# Altium integrated library WL-SWTP (rev22c).IntLib: 30 symbols
Pins are listed as number, name and electrical type; pins without a type are passive.

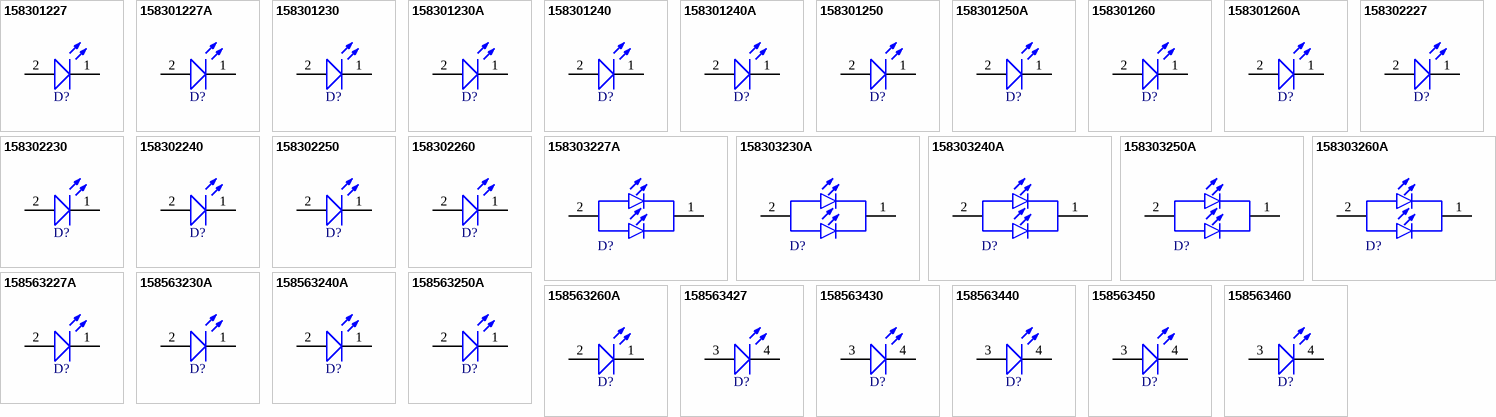
[diagram p0: symbols 158301227 to 158563460]

## 158301227
designator D?, comment Sunrise, 3V, 120°  (value not drawn)
WL-SWTP SMT White Top view PLCC, size 3014, Sunrise, 3V, 120°; Manufacturer Part Number: 158301227; Manufacturer: Wurth Elektronik; Case/Size Code: 3014; Chip Technology: InGaN; Color Rendering Index: 85; Correlated Color Temperature: 2700K; Luminous Flux: 8lm; ComponentLink1Description: Website Link; ComponentLink1URL: https://www.we-online.com/redexpert/article/158301227?ad; ComponentLink2Description: Datasheet Link; ComponentLink2URL: https://www.we-online.com/redexpert/spec/158301227?ad; Category: General Lighting; Match Code: WL-SWTP; Mount: Surface Mount; Operating Temperature Max: 85°C; Operating Temperature Min: -40°C; Packaging: Tape and Reel; Length: 3mm; Width: 1.4mm; Height: 0.8mm; Emitting Color: Sunrise; Forward Voltage: 3V; Viewing Angle: 120°
footprint WL-SWTP_3014_L3W1.4H0.8
pins: 1 K, 2 A

## 158301227A
designator D?, comment Sunrise, 2.8V, 120°  (value not drawn)
WL-SWTP SMT White Top view PLCC, size 3014, Sunrise, 2.8V, 120°; Manufacturer Part Number: 158301227A; Manufacturer: Wurth Elektronik; Case/Size Code: 3014; Chip Technology: AlInGaN; Color Rendering Index: 85; Correlated Color Temperature: 2700K; Luminous Flux: 26lm; ComponentLink1Description: Website Link; ComponentLink1URL: https://www.we-online.com/redexpert/article/158301227A?ad; ComponentLink2Description: Datasheet Link; ComponentLink2URL: https://www.we-online.com/redexpert/spec/158301227A?ad; Category: General Lighting; Match Code: WL-SWTP; Mount: Surface Mount; Operating Temperature Max: 85°C; Operating Temperature Min: -40°C; Packaging: Tape and Reel; Length: 3mm; Width: 1.4mm; Height: 0.65mm; Emitting Color: Sunrise; Forward Voltage: 2.8V; Viewing Angle: 120°
footprint WL-SWTP_3014_L3W1.4H0.65
pins: 1 K, 2 A

## 158301230
designator D?, comment Warm White, 3V, 120°  (value not drawn)
WL-SWTP SMT White Top view PLCC, size 3014, Warm White, 3V, 120°; Manufacturer Part Number: 158301230; Manufacturer: Wurth Elektronik; Case/Size Code: 3014; Chip Technology: InGaN; Color Rendering Index: 85; Correlated Color Temperature: 3000K; Luminous Flux: 8lm; ComponentLink1Description: Website Link; ComponentLink1URL: https://www.we-online.com/redexpert/article/158301230?ad; ComponentLink2Description: Datasheet Link; ComponentLink2URL: https://www.we-online.com/redexpert/spec/158301230?ad; Category: General Lighting; Match Code: WL-SWTP; Mount: Surface Mount; Operating Temperature Max: 85°C; Operating Temperature Min: -40°C; Packaging: Tape and Reel; Length: 3mm; Width: 1.4mm; Height: 0.8mm; Emitting Color: Warm White; Forward Voltage: 3V; Viewing Angle: 120°
footprint WL-SWTP_3014_L3W1.4H0.8
pins: 1 K, 2 A

## 158301230A
designator D?, comment Warm White, 2.8V, 120°  (value not drawn)
WL-SWTP SMT White Top view PLCC, size 3014, Warm White, 2.8V, 120°; Manufacturer Part Number: 158301230A; Manufacturer: Wurth Elektronik; Case/Size Code: 3014; Chip Technology: AlInGaN; Color Rendering Index: 85; Correlated Color Temperature: 3000K; Luminous Flux: 26lm; ComponentLink1Description: Website Link; ComponentLink1URL: https://www.we-online.com/redexpert/article/158301230A?ad; ComponentLink2Description: Datasheet Link; ComponentLink2URL: https://www.we-online.com/redexpert/spec/158301230A?ad; Category: General Lighting; Match Code: WL-SWTP; Mount: Surface Mount; Operating Temperature Max: 85°C; Operating Temperature Min: -40°C; Packaging: Tape and Reel; Length: 3mm; Width: 1.4mm; Height: 0.65mm; Emitting Color: Warm White; Forward Voltage: 2.8V; Viewing Angle: 120°
footprint WL-SWTP_3014_L3W1.4H0.65
pins: 1 K, 2 A

## 158301240
designator D?, comment Moonlight, 3V, 120°  (value not drawn)
WL-SWTP SMT White Top view PLCC, size 3014, Moonlight, 3V, 120°; Manufacturer Part Number: 158301240; Manufacturer: Wurth Elektronik; Case/Size Code: 3014; Chip Technology: InGaN; Color Rendering Index: 85; Correlated Color Temperature: 4000K; Luminous Flux: 8.5lm; ComponentLink1Description: Website Link; ComponentLink1URL: https://www.we-online.com/redexpert/article/158301240?ad; ComponentLink2Description: Datasheet Link; ComponentLink2URL: https://www.we-online.com/redexpert/spec/158301240?ad; Category: General Lighting; Match Code: WL-SWTP; Mount: Surface Mount; Operating Temperature Max: 85°C; Operating Temperature Min: -40°C; Packaging: Tape and Reel; Length: 3mm; Width: 1.4mm; Height: 0.8mm; Emitting Color: Moonlight; Forward Voltage: 3V; Viewing Angle: 120°
footprint WL-SWTP_3014_L3W1.4H0.8
pins: 1 K, 2 A

## 158301240A
designator D?, comment Moonlight, 2.8V, 120°  (value not drawn)
WL-SWTP SMT White Top view PLCC, size 3014, Moonlight, 2.8V, 120°; Manufacturer Part Number: 158301240A; Manufacturer: Wurth Elektronik; Case/Size Code: 3014; Chip Technology: AlInGaN; Color Rendering Index: 85; Correlated Color Temperature: 4000K; Luminous Flux: 26lm; ComponentLink1Description: Website Link; ComponentLink1URL: https://www.we-online.com/redexpert/article/158301240A?ad; ComponentLink2Description: Datasheet Link; ComponentLink2URL: https://www.we-online.com/redexpert/spec/158301240A?ad; Category: General Lighting; Match Code: WL-SWTP; Mount: Surface Mount; Operating Temperature Max: 85°C; Operating Temperature Min: -40°C; Packaging: Tape and Reel; Length: 3mm; Width: 1.4mm; Height: 0.65mm; Emitting Color: Moonlight; Forward Voltage: 2.8V; Viewing Angle: 120°
footprint WL-SWTP_3014_L3W1.4H0.65
pins: 1 K, 2 A

## 158301250
designator D?, comment Daylight, 3V, 120°  (value not drawn)
WL-SWTP SMT White Top view PLCC, size 3014, Daylight, 3V, 120°; Manufacturer Part Number: 158301250; Manufacturer: Wurth Elektronik; Case/Size Code: 3014; Chip Technology: InGaN; Color Rendering Index: 85; Correlated Color Temperature: 5000K; Luminous Flux: 9lm; ComponentLink1Description: Website Link; ComponentLink1URL: https://www.we-online.com/redexpert/article/158301250?ad; ComponentLink2Description: Datasheet Link; ComponentLink2URL: https://www.we-online.com/redexpert/spec/158301250?ad; Category: General Lighting; Match Code: WL-SWTP; Mount: Surface Mount; Operating Temperature Max: 85°C; Operating Temperature Min: -40°C; Packaging: Tape and Reel; Length: 3mm; Width: 1.4mm; Height: 0.8mm; Emitting Color: Daylight; Forward Voltage: 3V; Viewing Angle: 120°
footprint WL-SWTP_3014_L3W1.4H0.8
pins: 1 K, 2 A

## 158301250A
designator D?, comment Daylight, 2.8V, 120°  (value not drawn)
WL-SWTP SMT White Top view PLCC, size 3014, Daylight, 2.8V, 120°; Manufacturer Part Number: 158301250A; Manufacturer: Wurth Elektronik; Case/Size Code: 3014; Chip Technology: AlInGaN; Color Rendering Index: 85; Correlated Color Temperature: 5000K; Luminous Flux: 26lm; ComponentLink1Description: Website Link; ComponentLink1URL: https://www.we-online.com/redexpert/article/158301250A?ad; ComponentLink2Description: Datasheet Link; ComponentLink2URL: https://www.we-online.com/redexpert/spec/158301250A?ad; Category: General Lighting; Match Code: WL-SWTP; Mount: Surface Mount; Operating Temperature Max: 85°C; Operating Temperature Min: -40°C; Packaging: Tape and Reel; Length: 3mm; Width: 1.4mm; Height: 0.65mm; Emitting Color: Daylight; Forward Voltage: 2.8V; Viewing Angle: 120°
footprint WL-SWTP_3014_L3W1.4H0.65
pins: 1 K, 2 A

## 158301260
designator D?, comment Cool White, 3V, 120°  (value not drawn)
WL-SWTP SMT White Top view PLCC, size 3014, Cool White, 3V, 120°; Manufacturer Part Number: 158301260; Manufacturer: Wurth Elektronik; Case/Size Code: 3014; Chip Technology: InGaN; Color Rendering Index: 90; Correlated Color Temperature: 6000K; Luminous Flux: 9lm; ComponentLink1Description: Website Link; ComponentLink1URL: https://www.we-online.com/redexpert/article/158301260?ad; ComponentLink2Description: Datasheet Link; ComponentLink2URL: https://www.we-online.com/redexpert/spec/158301260?ad; Category: General Lighting; Match Code: WL-SWTP; Mount: Surface Mount; Operating Temperature Max: 85°C; Operating Temperature Min: -40°C; Packaging: Tape and Reel; Length: 3mm; Width: 1.4mm; Height: 0.8mm; Emitting Color: Cool White; Forward Voltage: 3V; Viewing Angle: 120°
footprint WL-SWTP_3014_L3W1.4H0.8
pins: 1 K, 2 A

## 158301260A
designator D?, comment Cool White, 2.8V, 120°  (value not drawn)
WL-SWTP SMT White Top view PLCC, size 3014, Cool White, 2.8V, 120°; Manufacturer Part Number: 158301260A; Manufacturer: Wurth Elektronik; Case/Size Code: 3014; Chip Technology: AlInGaN; Color Rendering Index: 85; Correlated Color Temperature: 6000K; Luminous Flux: 26lm; ComponentLink1Description: Website Link; ComponentLink1URL: https://www.we-online.com/redexpert/article/158301260A?ad; ComponentLink2Description: Datasheet Link; ComponentLink2URL: https://www.we-online.com/redexpert/spec/158301260A?ad; Category: General Lighting; Match Code: WL-SWTP; Mount: Surface Mount; Operating Temperature Max: 85°C; Operating Temperature Min: -40°C; Packaging: Tape and Reel; Length: 3mm; Width: 1.4mm; Height: 0.65mm; Emitting Color: Cool White; Forward Voltage: 2.8V; Viewing Angle: 120°
footprint WL-SWTP_3014_L3W1.4H0.65
pins: 1 K, 2 A

## 158302227
designator D?, comment Sunrise, 3.2V, 120°  (value not drawn)
WL-SWTP SMT White Top view PLCC, size 3022, Sunrise, 3.2V, 120°; Manufacturer Part Number: 158302227; Manufacturer: Wurth Elektronik; Case/Size Code: 3022; Chip Technology: InGaN; Color Rendering Index: 85; Correlated Color Temperature: 2700K; Luminous Flux: 20lm; ComponentLink1Description: Website Link; ComponentLink1URL: https://www.we-online.com/redexpert/article/158302227?ad; ComponentLink2Description: Datasheet Link; ComponentLink2URL: https://www.we-online.com/redexpert/spec/158302227?ad; Category: General Lighting; Match Code: WL-SWTP; Mount: Surface Mount; Operating Temperature Max: 85°C; Operating Temperature Min: -40°C; Packaging: Tape and Reel; Length: 3mm; Width: 2mm; Height: 0.8mm; Emitting Color: Sunrise; Forward Voltage: 3.2V; Viewing Angle: 120°
footprint WL-SWTP_3022_L3W2H0.8
pins: 1 K, 2 A

## 158302230
designator D?, comment Warm White, 3.2V, 120°  (value not drawn)
WL-SWTP SMT White Top view PLCC, size 3022, Warm White, 3.2V, 120°; Manufacturer Part Number: 158302230; Manufacturer: Wurth Elektronik; Case/Size Code: 3022; Chip Technology: InGaN; Color Rendering Index: 85; Correlated Color Temperature: 3000K; Luminous Flux: 20lm; ComponentLink1Description: Website Link; ComponentLink1URL: https://www.we-online.com/redexpert/article/158302230?ad; ComponentLink2Description: Datasheet Link; ComponentLink2URL: https://www.we-online.com/redexpert/spec/158302230?ad; Category: General Lighting; Match Code: WL-SWTP; Mount: Surface Mount; Operating Temperature Max: 85°C; Operating Temperature Min: -40°C; Packaging: Tape and Reel; Length: 3mm; Width: 2mm; Height: 0.8mm; Emitting Color: Warm White; Forward Voltage: 3.2V; Viewing Angle: 120°
footprint WL-SWTP_3022_L3W2H0.8
pins: 1 K, 2 A

## 158302240
designator D?, comment Moonlight, 3.2V, 120°  (value not drawn)
WL-SWTP SMT White Top view PLCC, size 3022, Moonlight, 3.2V, 120°; Manufacturer Part Number: 158302240; Manufacturer: Wurth Elektronik; Case/Size Code: 3022; Chip Technology: InGaN; Color Rendering Index: 85; Correlated Color Temperature: 4000K; Luminous Flux: 22lm; ComponentLink1Description: Website Link; ComponentLink1URL: https://www.we-online.com/redexpert/article/158302240?ad; ComponentLink2Description: Datasheet Link; ComponentLink2URL: https://www.we-online.com/redexpert/spec/158302240?ad; Category: General Lighting; Match Code: WL-SWTP; Mount: Surface Mount; Operating Temperature Max: 85°C; Operating Temperature Min: -40°C; Packaging: Tape and Reel; Length: 3mm; Width: 2mm; Height: 0.8mm; Emitting Color: Moonlight; Forward Voltage: 3.2V; Viewing Angle: 120°
footprint WL-SWTP_3022_L3W2H0.8
pins: 1 K, 2 A

## 158302250
designator D?, comment Daylight, 3.2V, 120°  (value not drawn)
WL-SWTP SMT White Top view PLCC, size 3022, Daylight, 3.2V, 120°; Manufacturer Part Number: 158302250; Manufacturer: Wurth Elektronik; Case/Size Code: 3022; Chip Technology: InGaN; Color Rendering Index: 85; Correlated Color Temperature: 5000K; Luminous Flux: 22lm; ComponentLink1Description: Website Link; ComponentLink1URL: https://www.we-online.com/redexpert/article/158302250?ad; ComponentLink2Description: Datasheet Link; ComponentLink2URL: https://www.we-online.com/redexpert/spec/158302250?ad; Category: General Lighting; Match Code: WL-SWTP; Mount: Surface Mount; Operating Temperature Max: 85°C; Operating Temperature Min: -40°C; Packaging: Tape and Reel; Length: 3mm; Width: 2mm; Height: 0.8mm; Emitting Color: Daylight; Forward Voltage: 3.2V; Viewing Angle: 120°
footprint WL-SWTP_3022_L3W2H0.8
pins: 1 K, 2 A

## 158302260
designator D?, comment Cool White, 3.2V, 120°  (value not drawn)
WL-SWTP SMT White Top view PLCC, size 3022, Cool White, 3.2V, 120°; Manufacturer Part Number: 158302260; Manufacturer: Wurth Elektronik; Case/Size Code: 3022; Chip Technology: InGaN; Color Rendering Index: 90; Correlated Color Temperature: 6000K; Luminous Flux: 22lm; ComponentLink1Description: Website Link; ComponentLink1URL: https://www.we-online.com/redexpert/article/158302260?ad; ComponentLink2Description: Datasheet Link; ComponentLink2URL: https://www.we-online.com/redexpert/spec/158302260?ad; Category: General Lighting; Match Code: WL-SWTP; Mount: Surface Mount; Operating Temperature Max: 85°C; Operating Temperature Min: -40°C; Packaging: Tape and Reel; Length: 3mm; Width: 2mm; Height: 0.8mm; Emitting Color: Cool White; Forward Voltage: 3.2V; Viewing Angle: 120°
footprint WL-SWTP_3022_L3W2H0.8
pins: 1 K, 2 A

## 158303227A
designator D?, comment Sunrise, 2.8V, 120°  (value not drawn)
WL-SWTP SMT White Top view PLCC, size 3030, Sunrise, 2.8V, 120°; Manufacturer Part Number: 158303227A; Manufacturer: Wurth Elektronik; Case/Size Code: 3030; Chip Technology: AlInGaN; Color Rendering Index: 85; Correlated Color Temperature: 2700K; Luminous Flux: 34lm; ComponentLink1Description: Website Link; ComponentLink1URL: https://www.we-online.com/redexpert/article/158303227A?ad; ComponentLink2Description: Datasheet Link; ComponentLink2URL: https://www.we-online.com/redexpert/spec/158303227A?ad; Category: General Lighting; Match Code: WL-SWTP; Mount: Surface Mount; Operating Temperature Max: 85°C; Operating Temperature Min: -40°C; Packaging: Tape and Reel; Length: 3mm; Width: 3mm; Height: 0.67mm; Emitting Color: Sunrise; Forward Voltage: 2.8V; Viewing Angle: 120°
footprint WL-SWTP_3030_L3W3H0.67
pins: 1 K, 2 A

## 158303230A
designator D?, comment Warm White, 2.8V, 120°  (value not drawn)
WL-SWTP SMT White Top view PLCC, size 3030, Warm White, 2.8V, 120°; Manufacturer Part Number: 158303230A; Manufacturer: Wurth Elektronik; Case/Size Code: 3030; Chip Technology: AlInGaN; Color Rendering Index: 85; Correlated Color Temperature: 3000K; Luminous Flux: 34lm; ComponentLink1Description: Website Link; ComponentLink1URL: https://www.we-online.com/redexpert/article/158303230A?ad; ComponentLink2Description: Datasheet Link; ComponentLink2URL: https://www.we-online.com/redexpert/spec/158303230A?ad; Category: General Lighting; Match Code: WL-SWTP; Mount: Surface Mount; Operating Temperature Max: 85°C; Operating Temperature Min: -40°C; Packaging: Tape and Reel; Length: 3mm; Width: 3mm; Height: 0.67mm; Emitting Color: Warm White; Forward Voltage: 2.8V; Viewing Angle: 120°
footprint WL-SWTP_3030_L3W3H0.67
pins: 1 K, 2 A

## 158303240A
designator D?, comment Moonlight, 2.8V, 120°  (value not drawn)
WL-SWTP SMT White Top view PLCC, size 3030, Moonlight, 2.8V, 120°; Manufacturer Part Number: 158303240A; Manufacturer: Wurth Elektronik; Case/Size Code: 3030; Chip Technology: AlInGaN; Color Rendering Index: 85; Correlated Color Temperature: 4000K; Luminous Flux: 36lm; ComponentLink1Description: Website Link; ComponentLink1URL: https://www.we-online.com/redexpert/article/158303240A?ad; ComponentLink2Description: Datasheet Link; ComponentLink2URL: https://www.we-online.com/redexpert/spec/158303240A?ad; Category: General Lighting; Match Code: WL-SWTP; Mount: Surface Mount; Operating Temperature Max: 85°C; Operating Temperature Min: -40°C; Packaging: Tape and Reel; Length: 3mm; Width: 3mm; Height: 0.67mm; Emitting Color: Moonlight; Forward Voltage: 2.8V; Viewing Angle: 120°
footprint WL-SWTP_3030_L3W3H0.67
pins: 1 K, 2 A

## 158303250A
designator D?, comment Daylight, 2.8V, 120°  (value not drawn)
WL-SWTP SMT White Top view PLCC, size 3030, Daylight, 2.8V, 120°; Manufacturer Part Number: 158303250A; Manufacturer: Wurth Elektronik; Case/Size Code: 3030; Chip Technology: AlInGaN; Color Rendering Index: 85; Correlated Color Temperature: 5000K; Luminous Flux: 36lm; ComponentLink1Description: Website Link; ComponentLink1URL: https://www.we-online.com/redexpert/article/158303250A?ad; ComponentLink2Description: Datasheet Link; ComponentLink2URL: https://www.we-online.com/redexpert/spec/158303250A?ad; Category: General Lighting; Match Code: WL-SWTP; Mount: Surface Mount; Operating Temperature Max: 85°C; Operating Temperature Min: -40°C; Packaging: Tape and Reel; Length: 3mm; Width: 3mm; Height: 0.67mm; Emitting Color: Daylight; Forward Voltage: 2.8V; Viewing Angle: 120°
footprint WL-SWTP_3030_L3W3H0.67
pins: 1 K, 2 A

## 158303260A
designator D?, comment Cool White, 2.8V, 120°  (value not drawn)
WL-SWTP SMT White Top view PLCC, size 3030, Cool White, 2.8V, 120°; Manufacturer Part Number: 158303260A; Manufacturer: Wurth Elektronik; Case/Size Code: 3030; Chip Technology: AlInGaN; Color Rendering Index: 85; Correlated Color Temperature: 6000K; Luminous Flux: 36lm; ComponentLink1Description: Website Link; ComponentLink1URL: https://www.we-online.com/redexpert/article/158303260A?ad; ComponentLink2Description: Datasheet Link; ComponentLink2URL: https://www.we-online.com/redexpert/spec/158303260A?ad; Category: General Lighting; Match Code: WL-SWTP; Mount: Surface Mount; Operating Temperature Max: 85°C; Operating Temperature Min: -40°C; Packaging: Tape and Reel; Length: 3mm; Width: 3mm; Height: 0.67mm; Emitting Color: Cool White; Forward Voltage: 2.8V; Viewing Angle: 120°
footprint WL-SWTP_3030_L3W3H0.67
pins: 1 K, 2 A

## 158563227A
designator D?, comment Sunrise, 2.8V, 120°  (value not drawn)
WL-SWTP SMT White Top view PLCC, size 5630, Sunrise, 2.8V, 120°; Manufacturer Part Number: 158563227A; Manufacturer: Wurth Elektronik; Case/Size Code: 5630; Chip Technology: InGaN; Color Rendering Index: 85; Correlated Color Temperature: 2700K; Luminous Flux: 32lm; ComponentLink1Description: Website Link; ComponentLink1URL: https://www.we-online.com/redexpert/article/158563227A?ad; ComponentLink2Description: Datasheet Link; ComponentLink2URL: https://www.we-online.com/redexpert/spec/158563227A?ad; Category: General Lighting; Match Code: WL-SWTP; Mount: Surface Mount; Operating Temperature Max: 85°C; Operating Temperature Min: -40°C; Packaging: Tape and Reel; Length: 5.6mm; Width: 3mm; Height: 0.6mm; Emitting Color: Sunrise; Forward Voltage: 2.8V; Viewing Angle: 120°
footprint WL-SWTP_5630_L5.6W3H0.6
pins: 1 K, 2 A

## 158563230A
designator D?, comment Warm White, 2.8V, 120°  (value not drawn)
WL-SWTP SMT White Top view PLCC, size 5630, Warm White, 2.8V, 120°; Manufacturer Part Number: 158563230A; Manufacturer: Wurth Elektronik; Case/Size Code: 5630; Chip Technology: InGaN; Color Rendering Index: 85; Correlated Color Temperature: 3000K; Luminous Flux: 32lm; ComponentLink1Description: Website Link; ComponentLink1URL: https://www.we-online.com/redexpert/article/158563230A?ad; ComponentLink2Description: Datasheet Link; ComponentLink2URL: https://www.we-online.com/redexpert/spec/158563230A?ad; Category: General Lighting; Match Code: WL-SWTP; Mount: Surface Mount; Operating Temperature Max: 85°C; Operating Temperature Min: -40°C; Packaging: Tape and Reel; Length: 5.6mm; Width: 3mm; Height: 0.6mm; Emitting Color: Warm White; Forward Voltage: 2.8V; Viewing Angle: 120°
footprint WL-SWTP_5630_L5.6W3H0.6
pins: 1 K, 2 A

## 158563240A
designator D?, comment Moonlight, 2.8V, 120°  (value not drawn)
WL-SWTP SMT White Top view PLCC, size 5630, Moonlight, 2.8V, 120°; Manufacturer Part Number: 158563240A; Manufacturer: Wurth Elektronik; Case/Size Code: 5630; Chip Technology: InGaN; Color Rendering Index: 85; Correlated Color Temperature: 4000K; Luminous Flux: 32lm; ComponentLink1Description: Website Link; ComponentLink1URL: https://www.we-online.com/redexpert/article/158563240A?ad; ComponentLink2Description: Datasheet Link; ComponentLink2URL: https://www.we-online.com/redexpert/spec/158563240A?ad; Category: General Lighting; Match Code: WL-SWTP; Mount: Surface Mount; Operating Temperature Max: 85°C; Operating Temperature Min: -40°C; Packaging: Tape and Reel; Length: 5.6mm; Width: 3mm; Height: 0.6mm; Emitting Color: Moonlight; Forward Voltage: 2.8V; Viewing Angle: 120°
footprint WL-SWTP_5630_L5.6W3H0.6
pins: 1 K, 2 A

## 158563250A
designator D?, comment Daylight, 2.8V, 120°  (value not drawn)
WL-SWTP SMT White Top view PLCC, size 5630, Daylight, 2.8V, 120°; Manufacturer Part Number: 158563250A; Manufacturer: Wurth Elektronik; Case/Size Code: 5630; Chip Technology: InGaN; Color Rendering Index: 85; Correlated Color Temperature: 5000K; Luminous Flux: 35lm; ComponentLink1Description: Website Link; ComponentLink1URL: https://www.we-online.com/redexpert/article/158563250A?ad; ComponentLink2Description: Datasheet Link; ComponentLink2URL: https://www.we-online.com/redexpert/spec/158563250A?ad; Category: General Lighting; Match Code: WL-SWTP; Mount: Surface Mount; Operating Temperature Max: 85°C; Operating Temperature Min: -40°C; Packaging: Tape and Reel; Length: 5.6mm; Width: 3mm; Height: 0.6mm; Emitting Color: Daylight; Forward Voltage: 2.8V; Viewing Angle: 120°
footprint WL-SWTP_5630_L5.6W3H0.6
pins: 1 K, 2 A

## 158563260A
designator D?, comment Cool White, 2.8V, 120°  (value not drawn)
WL-SWTP SMT White Top view PLCC, size 5630, Cool White, 2.8V, 120°; Manufacturer Part Number: 158563260A; Manufacturer: Wurth Elektronik; Case/Size Code: 5630; Chip Technology: InGaN; Color Rendering Index: 85; Correlated Color Temperature: 6000K; Luminous Flux: 35lm; ComponentLink1Description: Website Link; ComponentLink1URL: https://www.we-online.com/redexpert/article/158563260A?ad; ComponentLink2Description: Datasheet Link; ComponentLink2URL: https://www.we-online.com/redexpert/spec/158563260A?ad; Category: General Lighting; Match Code: WL-SWTP; Mount: Surface Mount; Operating Temperature Max: 85°C; Operating Temperature Min: -40°C; Packaging: Tape and Reel; Length: 5.6mm; Width: 3mm; Height: 0.6mm; Emitting Color: Cool White; Forward Voltage: 2.8V; Viewing Angle: 120°
footprint WL-SWTP_5630_L5.6W3H0.6
pins: 1 K, 2 A

## 158563427
designator D?, comment Sunrise, 3V, 120°  (value not drawn)
WL-SWTP SMT White Top view PLCC, size 5630, Sunrise, 3V, 120°; Manufacturer Part Number: 158563427; Manufacturer: Wurth Elektronik; Case/Size Code: 5630; Chip Technology: InGaN; Color Rendering Index: 85; Correlated Color Temperature: 2700K; Luminous Flux: 34lm; ComponentLink1Description: Website Link; ComponentLink1URL: https://www.we-online.com/redexpert/article/158563427?ad; ComponentLink2Description: Datasheet Link; ComponentLink2URL: https://www.we-online.com/redexpert/spec/158563427?ad; Category: General Lighting; Match Code: WL-SWTP; Mount: Surface Mount; Operating Temperature Max: 85°C; Operating Temperature Min: -40°C; Packaging: Tape and Reel; Length: 5.6mm; Width: 3mm; Height: 0.9mm; Emitting Color: Sunrise; Forward Voltage: 3V; Viewing Angle: 120°
footprint WL-SWTP_5630_L5.6W3H0.9
pins: 3 A, 4 K

## 158563430
designator D?, comment Warm White, 3V, 120°  (value not drawn)
WL-SWTP SMT White Top view PLCC, size 5630, Warm White, 3V, 120°; Manufacturer Part Number: 158563430; Manufacturer: Wurth Elektronik; Case/Size Code: 5630; Chip Technology: InGaN; Color Rendering Index: 85; Correlated Color Temperature: 3000K; Luminous Flux: 34lm; ComponentLink1Description: Website Link; ComponentLink1URL: https://www.we-online.com/redexpert/article/158563430?ad; ComponentLink2Description: Datasheet Link; ComponentLink2URL: https://www.we-online.com/redexpert/spec/158563430?ad; Category: General Lighting; Match Code: WL-SWTP; Mount: Surface Mount; Operating Temperature Max: 85°C; Operating Temperature Min: -40°C; Packaging: Tape and Reel; Length: 5.6mm; Width: 3mm; Height: 0.9mm; Emitting Color: Warm White; Forward Voltage: 3V; Viewing Angle: 120°
footprint WL-SWTP_5630_L5.6W3H0.9
pins: 3 A, 4 K

## 158563440
designator D?, comment Moonlight, 3V, 120°  (value not drawn)
WL-SWTP SMT White Top view PLCC, size 5630, Moonlight, 3V, 120°; Manufacturer Part Number: 158563440; Manufacturer: Wurth Elektronik; Case/Size Code: 5630; Chip Technology: InGaN; Color Rendering Index: 85; Correlated Color Temperature: 4000K; Luminous Flux: 36lm; ComponentLink1Description: Website Link; ComponentLink1URL: https://www.we-online.com/redexpert/article/158563440?ad; ComponentLink2Description: Datasheet Link; ComponentLink2URL: https://www.we-online.com/redexpert/spec/158563440?ad; Category: General Lighting; Match Code: WL-SWTP; Mount: Surface Mount; Operating Temperature Max: 85°C; Operating Temperature Min: -40°C; Packaging: Tape and Reel; Length: 5.6mm; Width: 3mm; Height: 0.9mm; Emitting Color: Moonlight; Forward Voltage: 3V; Viewing Angle: 120°
footprint WL-SWTP_5630_L5.6W3H0.9
pins: 3 A, 4 K

## 158563450
designator D?, comment Daylight, 3V, 120°  (value not drawn)
WL-SWTP SMT White Top view PLCC, size 5630, Daylight, 3V, 120°; Manufacturer Part Number: 158563450; Manufacturer: Wurth Elektronik; Case/Size Code: 5630; Chip Technology: InGaN; Color Rendering Index: 85; Correlated Color Temperature: 5000K; Luminous Flux: 39lm; ComponentLink1Description: Website Link; ComponentLink1URL: https://www.we-online.com/redexpert/article/158563450?ad; ComponentLink2Description: Datasheet Link; ComponentLink2URL: https://www.we-online.com/redexpert/spec/158563450?ad; Category: General Lighting; Match Code: WL-SWTP; Mount: Surface Mount; Operating Temperature Max: 85°C; Operating Temperature Min: -40°C; Packaging: Tape and Reel; Length: 5.6mm; Width: 3mm; Height: 0.9mm; Emitting Color: Daylight; Forward Voltage: 3V; Viewing Angle: 120°
footprint WL-SWTP_5630_L5.6W3H0.9
pins: 3 A, 4 K

## 158563460
designator D?, comment Cool White, 3V, 120°  (value not drawn)
WL-SWTP SMT White Top view PLCC, size 5630, Cool White, 3V, 120°; Manufacturer Part Number: 158563460; Manufacturer: Wurth Elektronik; Case/Size Code: 5630; Chip Technology: InGaN; Color Rendering Index: 90; Correlated Color Temperature: 6000K; Luminous Flux: 39lm; ComponentLink1Description: Website Link; ComponentLink1URL: https://www.we-online.com/redexpert/article/158563460?ad; ComponentLink2Description: Datasheet Link; ComponentLink2URL: https://www.we-online.com/redexpert/spec/158563460?ad; Category: General Lighting; Match Code: WL-SWTP; Mount: Surface Mount; Operating Temperature Max: 85°C; Operating Temperature Min: -40°C; Packaging: Tape and Reel; Length: 5.6mm; Width: 3mm; Height: 0.9mm; Emitting Color: Cool White; Forward Voltage: 3V; Viewing Angle: 120°
footprint WL-SWTP_5630_L5.6W3H0.9
pins: 3 A, 4 K